# Altium footprint library PAL.PcbLib: 209 footprints (part 13 of 14)
Each footprint in its own frame and in the unit in brackets; x right, y up, seen from the top. Pads: shape width x height; smd on the part's side, far side on the other; paste and mask are expansions set on the pad; w line width, h text height; cw(c..) or ccw(c..) is an arc to the next point about the centre after c.
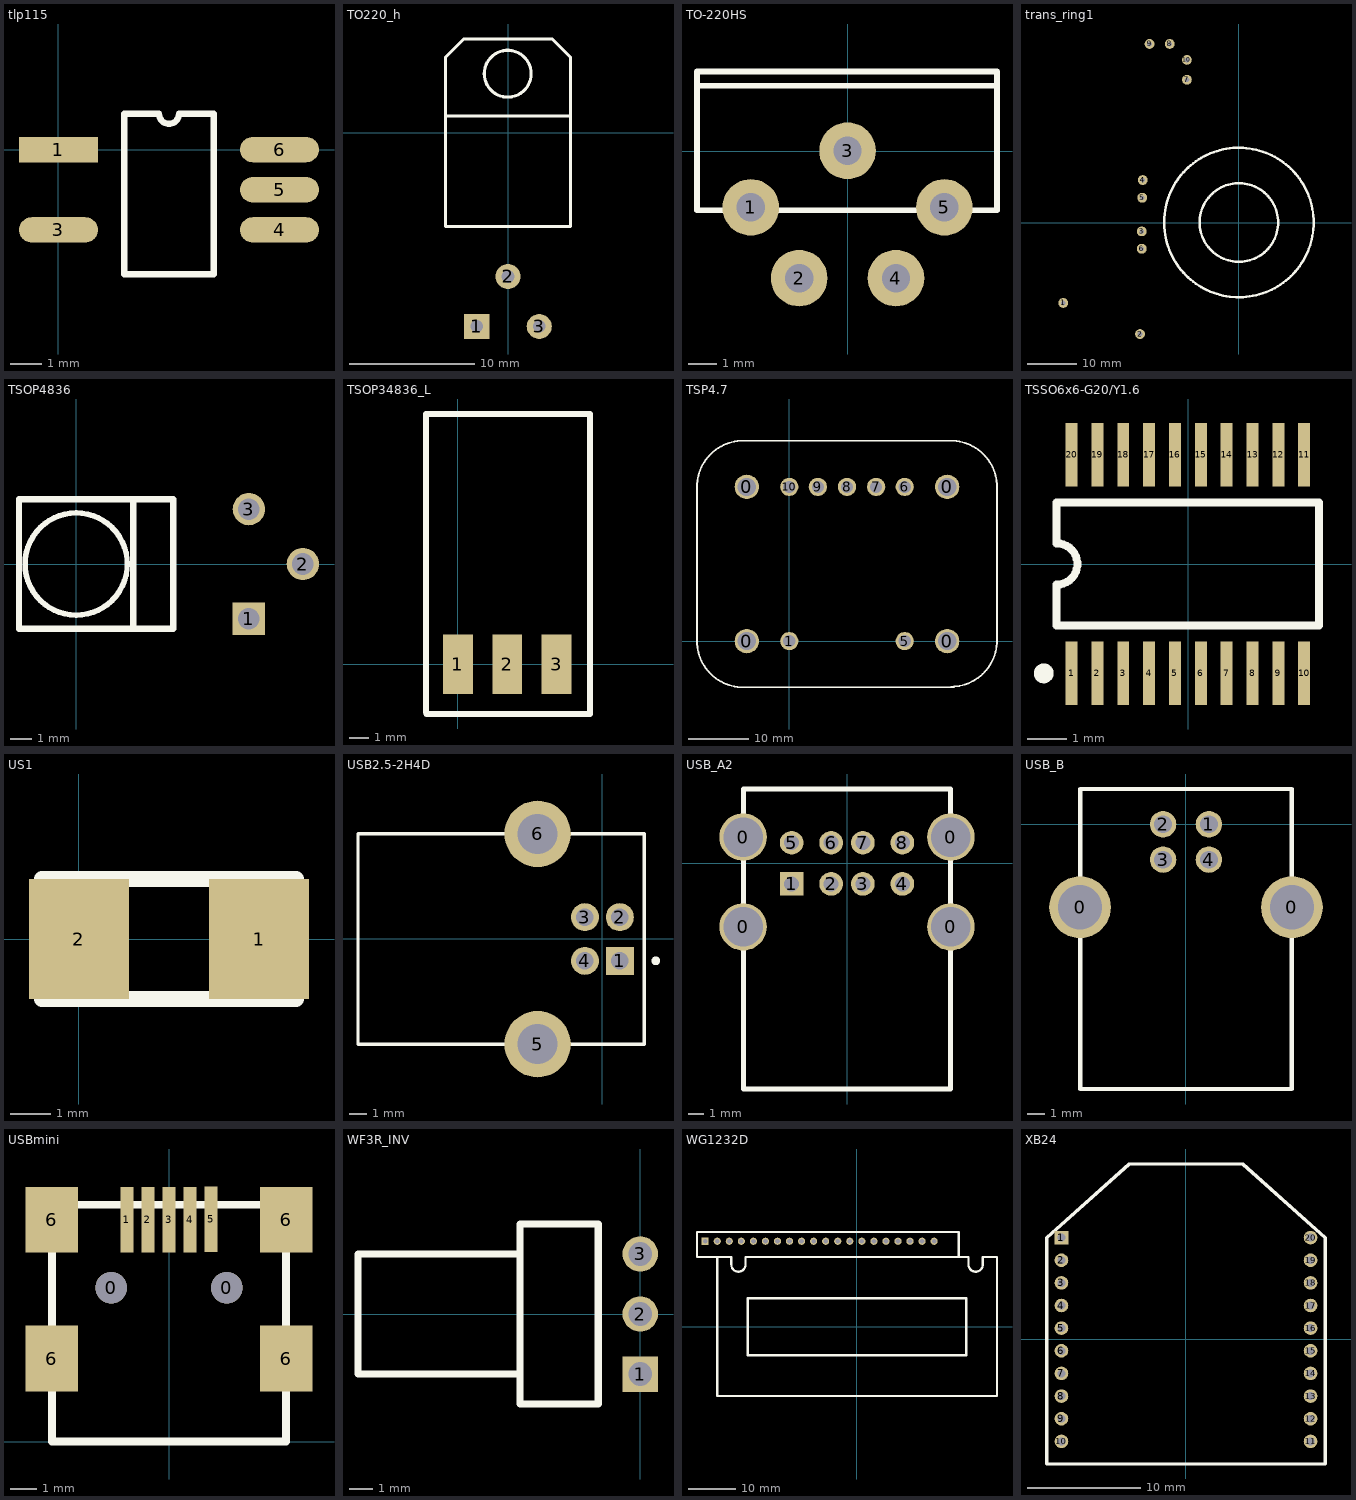
[diagram p12: the footprints below, top view; thin cyan lines are the x and y axes]

## tlp115 [mm]
pads (5):
  rect 2.5x0.8 smd: 1(0.001,-0.004)
  oval 2.5x0.8 smd: 3(0.001,-2.544) 4(7.001,-2.544) 5(7.001,-1.274) 6(7.001,-0.004)
Top Overlay:
  lines w0.2: 2.086,-3.949 2.086,1.131 3.183,1.131 ccw(c3.501,1.131) 3.818,1.131 4.916,1.131 4.916,-3.949 2.086,-3.949

## TO220_h [mm]
pads (3):
  rect 2x2 hole 1: 1(-2.5,-15.5)
  round 2 hole 1: 2(0,-11.5) 3(2.5,-15.5)
Top Overlay:
  circle w0.254: c-0.025,4.725 r1.874
  lines w0.25: -4.975,1.325 4.975,1.325 5,1.35 ; -5,-7.5 0,-7.5 5,-7.5 5,6.05 3.55,7.5 0,7.5 -3.55,7.5 -5,6.05 -5,-7.5

## TO-220HS [mm]
pads (5):
  round 2 hole 1: 1(-3.429,-1.989) 2(-1.719,-4.489) 3(-0.009,0.011) 4(1.701,-4.489) 5(3.411,-1.989)
Top Overlay:
  lines w0.2: -5.329,2.311 5.271,2.311 ; -5.329,-2.089 -5.329,2.811 5.271,2.811 5.271,-2.089 -5.329,-2.089

## trans_ring1 [mm]
pads (10):
  round 2 hole 1: 1(-35.8,-16.39) 2(-20.15,-22.74) 3(-19.8,-1.79) 4(-19.6,8.66) 5(-19.7,5.06) 6(-19.8,-5.34) 8(-14.1,36.41) 9(-18.2,36.41) 10(-10.6,33.16)
  round 2 hole 1 unplated: 7(-10.6,29.11)
Top Overlay:
  circle w0.5: c0,0.01 r15.24
  circle w0.5: c0,0.01 r8.001

## TSOP4836 [mm]
pads (3):
  rect 1.5x1.5 hole 1: 1(8,-2.54)
  round 1.5 hole 1: 2(10.5,0) 3(8,2.54)
Top Overlay:
  circle w0.254: c0,0 r2.369
  lines w0.3: 2.65,-3 2.65,3 ; -2.65,-3 4.5,-3 4.5,3 -2.65,3 -2.65,-3

## TSOP34836_L [mm]
pads (3):
  rect 1.5x3 smd: 1(0,0) 2(2.5,0) 3(5,0)
Top Overlay:
  lines w0.3: -1.625,-2.45 -1.625,12.7 6.7,12.7 6.7,-2.525 -1.6,-2.525

## TSP4.7 [mm]
pads (11):
  round 4 hole 3: 0(-6.999,0.009) 0(-6.999,25.409) 0(26.001,0.009) 0(26.001,25.409)
  round 3 hole 2: 1(0.001,0.009) 5(19.001,0.009) 6(19.001,25.409) 7(14.301,25.409) 8(9.501,25.409) 9(4.701,25.409) 10(0.001,25.409)
Top Overlay:
  lines w0.3: 26.601,-7.491 ccw(c26.601,0.109) 34.201,0.109 ; 27.101,-7.591 -7.599,-7.591 cw(c-7.599,0.009) -15.199,0.009 -15.199,25.409 cw(c-7.599,25.409) -7.599,33.009 26.601,33.009 cw(c26.601,25.409) 34.201,25.409 34.201,0.009

## TSSO6x6-G20/Y1.6 [mm]
pads (20):
  rect 0.3x1.6 smd: 1(-2.934,-2.743) 2(-2.284,-2.743) 3(-1.634,-2.743) 4(-0.984,-2.743) 5(-0.334,-2.743) 6(0.316,-2.743) 7(0.966,-2.743) 8(1.616,-2.743) 9(2.266,-2.743) 10(2.916,-2.743) 11(2.916,2.757) 12(2.266,2.757) 13(1.616,2.757) 14(0.966,2.757) 15(0.316,2.757) 16(-0.334,2.757) 17(-0.984,2.757) 18(-1.634,2.757) 19(-2.284,2.757) 20(-2.934,2.757)
Top Overlay:
  circle w0.25: c-3.634,-2.743 r0.125
  lines w0.2: -3.309,-1.543 -3.309,-0.513 ccw(c-3.309,0.007) -3.309,0.527 -3.309,1.557 3.291,1.557 3.291,-1.543 -3.309,-1.543

## US1 [mm]
pads (2):
  rect 2.5x3 smd: 1(4.5,0) 2(0,0)
Top Overlay:
  lines w0.4: 0.345,-1.5 0.345,1.5 ; -0.925,-1.5 5.425,-1.5 5.425,1.5 -0.925,1.5 -0.925,-1.5

## USB2.5-2H4D [mm]
pads (6):
  rect 1.6x1.6 hole 1: 1(0.993,-1.256)
  round 1.6 hole 1: 2(0.993,1.244) 3(-1.007,1.244) 4(-1.007,-1.256)
  round 3.8 hole 2.3: 5(-3.717,-6.026) 6(-3.717,6.014)
Top Overlay:
  circle w0.25: c3.053,-1.256 r0.125
  lines w0.2: -1.417,-6.026 2.403,-6.026 2.403,6.014 -1.417,6.014 ; 0,-6.026 -13.997,-6.026 -13.997,6.014 0,6.014

## USB_A2 [mm]
pads (12):
  round 3 hole 2.5: 0(-6.57,-4.02) 0(-6.57,1.66) 0(6.57,-4.02) 0(6.57,1.66)
  rect 1.5x1.5 hole 0.95: 1(-3.5,-1.3)
  round 1.5 hole 0.95: 2(-1,-1.3) 3(1,-1.3) 4(3.5,-1.3) 5(-3.5,1.3) 6(-1,1.3) 7(1,1.3) 8(3.5,1.3)
Top Overlay:
  lines w0.3: -6.55,-14.28 6.55,-14.28 6.55,4.7 -6.55,4.7 -6.55,-14.28

## USB_B [mm]
pads (6):
  round 3.5 hole 2.5: 0(-5.987,-4.689) 0(6.013,-4.689)
  round 1.5 hole 1: 1(1.313,0.011) 2(-1.287,0.011) 3(-1.287,-1.989) 4(1.313,-1.989)
Top Overlay:
  lines w0.254: -5.987,-14.989 -5.987,0.011 -5.987,2.011 6.013,2.011 6.013,-14.989 -5.987,-14.989

## USBmini [mm]
pads (11):
  round 1.2 hole 1.2: 0(-2.2,5.85) 0(2.2,5.85)
  rect 0.5x2.5 smd: 1(-1.6,8.43) 2(-0.8,8.43) 3(0,8.43) 4(0.8,8.43) 5(1.6,8.45)
  rect 2x2.5 smd: 6(-4.45,3.158) 6(-4.45,8.43) 6(4.45,3.158) 6(4.45,8.43)
Top Overlay:
  lines w0.3: -4.45,8.975 -4.45,0 4.45,0 ; -4.45,9 4.45,9 4.45,0.05 4.425,0.025

## WF3R_INV [mm]
pads (3):
  rect 1.5x1.5 hole 1: 1(0,-2.54)
  round 1.5 hole 1: 2(0,0) 3(0,2.54)
Top Overlay:
  lines w0.3: -5.08,-2.54 -11.938,-2.54 -11.938,2.54 -5.08,2.54 ; -5.08,-3.81 -1.778,-3.81 -1.778,3.81 -5.08,3.81 -5.08,-3.81

## WG1232D [mm]
pads (20):
  rect 1.5x1.5 hole 1: 1(-32,18)
  round 1.5 hole 1: 2(-29.46,18) 3(-26.92,18) 4(-24.38,18) 5(-21.84,18) 6(-19.3,18) 7(-16.76,18) 8(-14.22,18) 9(-11.68,18) 10(-9.14,18) 11(-6.6,18) 12(-4.06,18) 13(-1.52,18) 14(1.02,18) 15(3.56,18) 16(6.1,18) 17(8.64,18) 18(11.18,18) 19(13.72,18) 20(16.26,18)
Top Overlay:
  lines w0.48: -26.49,13.075 ccw(c-24.99,13.075) -23.49,13.075 ; 23.51,13.075 ccw(c25.01,13.075) 26.51,13.075
  lines w0.5: -29.475,14.65 -29.475,14.675 -33.725,14.675 -33.725,19.95 21.4,19.95 ; -26.515,13.1 -26.515,14.65 ; -26.515,14.675 -29.49,14.675 -29.49,-14.625 29.51,-14.625 29.51,14.675 26.535,14.675 ; -23.49,13.125 -23.49,14.675 23.51,14.675 23.51,13.125 ; 21.45,14.675 21.45,19.9 ; 26.535,13.1 26.535,14.65 ; -23,-6 -23,6 23,6 23,-6 -23,-6

## XB24 [mm]
pads (20):
  rect 1.2x1.2 hole 0.7: 1(-11,9)
  round 1.2 hole 0.7: 2(-11,7) 3(-11,5) 4(-11,3) 5(-11,1) 6(-11,-1) 7(-11,-3) 8(-11,-5) 9(-11,-7) 10(-11,-9) 11(11,-9) 12(11,-7) 13(11,-5) 14(11,-3) 15(11,-1) 16(11,1) 17(11,3) 18(11,5) 19(11,7) 20(11,9)
Top Overlay:
  lines w0.3: -12.3,-11 0,-11 12.3,-11 12.3,9 5,15.5 0,15.5 -5,15.5 -12.3,9 -12.3,-11